# Altium schematic symbol library HDSP-7801.SCHLIB: 1 symbol
Pins are listed as number, name and electrical type; pins without a type are passive.

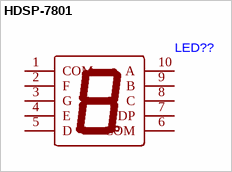
[diagram p0: symbol HDSP-7801]

## HDSP-7801
designator LED??
footprint LED-SEG-SMD_HDSP-7801
pins: 1 COM, 2 F, 3 G, 4 E, 5 D, 6 COM, 7 DP, 8 C, 9 B, 10 A